# Altium integrated library 640456-5.IntLib: 1 symbol
Pins are listed as number, name and electrical type; pins without a type are passive.

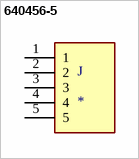
[diagram p0: symbol 640456-5]

## 640456-5
designator J
Header, Friction Lock; MTA-100; 5; 250 VAC; Polyester; Tin; Copper Alloy; Tin; MF: TE Connectivity; Number_of_Positions: 5; Product_Type: Connector; Centerline_Pitch: 2.54 mm[.1 in]; MP: 640456-5; Value: *; Digi-Key_Part_Number: A19471-ND; SnapEDA_Link: https://www.snapeda.com/parts/640456-5/TE%20Connectivity%20AMP%20Connectors/view-part/381420/?ref=snap; TE_purchase_URL: https://www.te.com/usa-en/product-640456-5.html?te_bu=Cor&te_type=disp&te_campaign=seda_glo_cor-seda-global-disp-prtnr-fy19-seda-model-bom-cta_sma-317_1&elqCampaignId=32493; Package: None; Digi-Key_Purchase_URL: https://www.digikey.com/product-detail/en/te-connectivity-amp-connectors/640456-5/A19471-ND/259011?utm_source=snapeda&utm_medium=aggregator&utm_campaign=symbol; EU_RoHS_Compliance: Compliant
footprint TE_640456-5
pins: 1, 2, 3, 4, 5